# EAGLE library part 2X5_O.05"_CONN (library con-cortex)
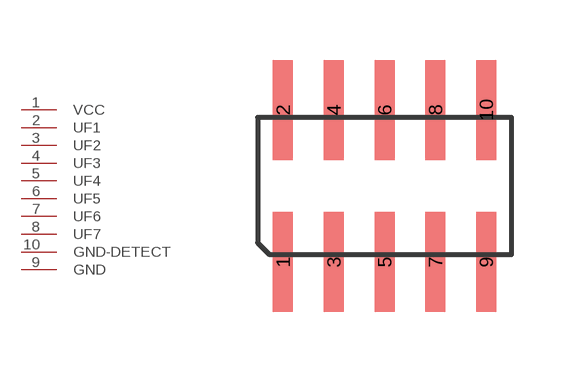
[diagram p3: symbol with the pads of 2X5_0.05"_SMD_NS; footprint 2X5_0.05"_SMD_NS]

Designator prefix K

## 2X5_O.05"_CONN  [2X5_0.05"_SMD_NS]
1  VCC
2  UF1
3  UF2
4  UF3
5  UF4
6  UF5
7  UF6
8  UF7
9  GND
10  GND-DETECT

## Footprint 2X5_0.05"_SMD_NS (pad centres in mm)
2x5, 0.05" pitch, surface-mount, unshrouded header from FCI, part number: 20021121-00010C4LF http://www.digikey.com/product-detail/en/20021121-00010C4LF/609-3695-1-ND/2209147
smd 0.5 x 2.5: 1 -2.54,-1.905; 2 -2.54,1.905; 3 -1.27,-1.905; 4 -1.27,1.905; 5 0,-1.905; 6 0,1.905; 7 1.27,-1.905; 8 1.27,1.905; 9 2.54,-1.905; 10 2.54,1.905